# Altium schematic symbol library Carte_design_SCHLib.SchLib: 40 symbols
Pins are listed as number, name and electrical type; pins without a type are passive.

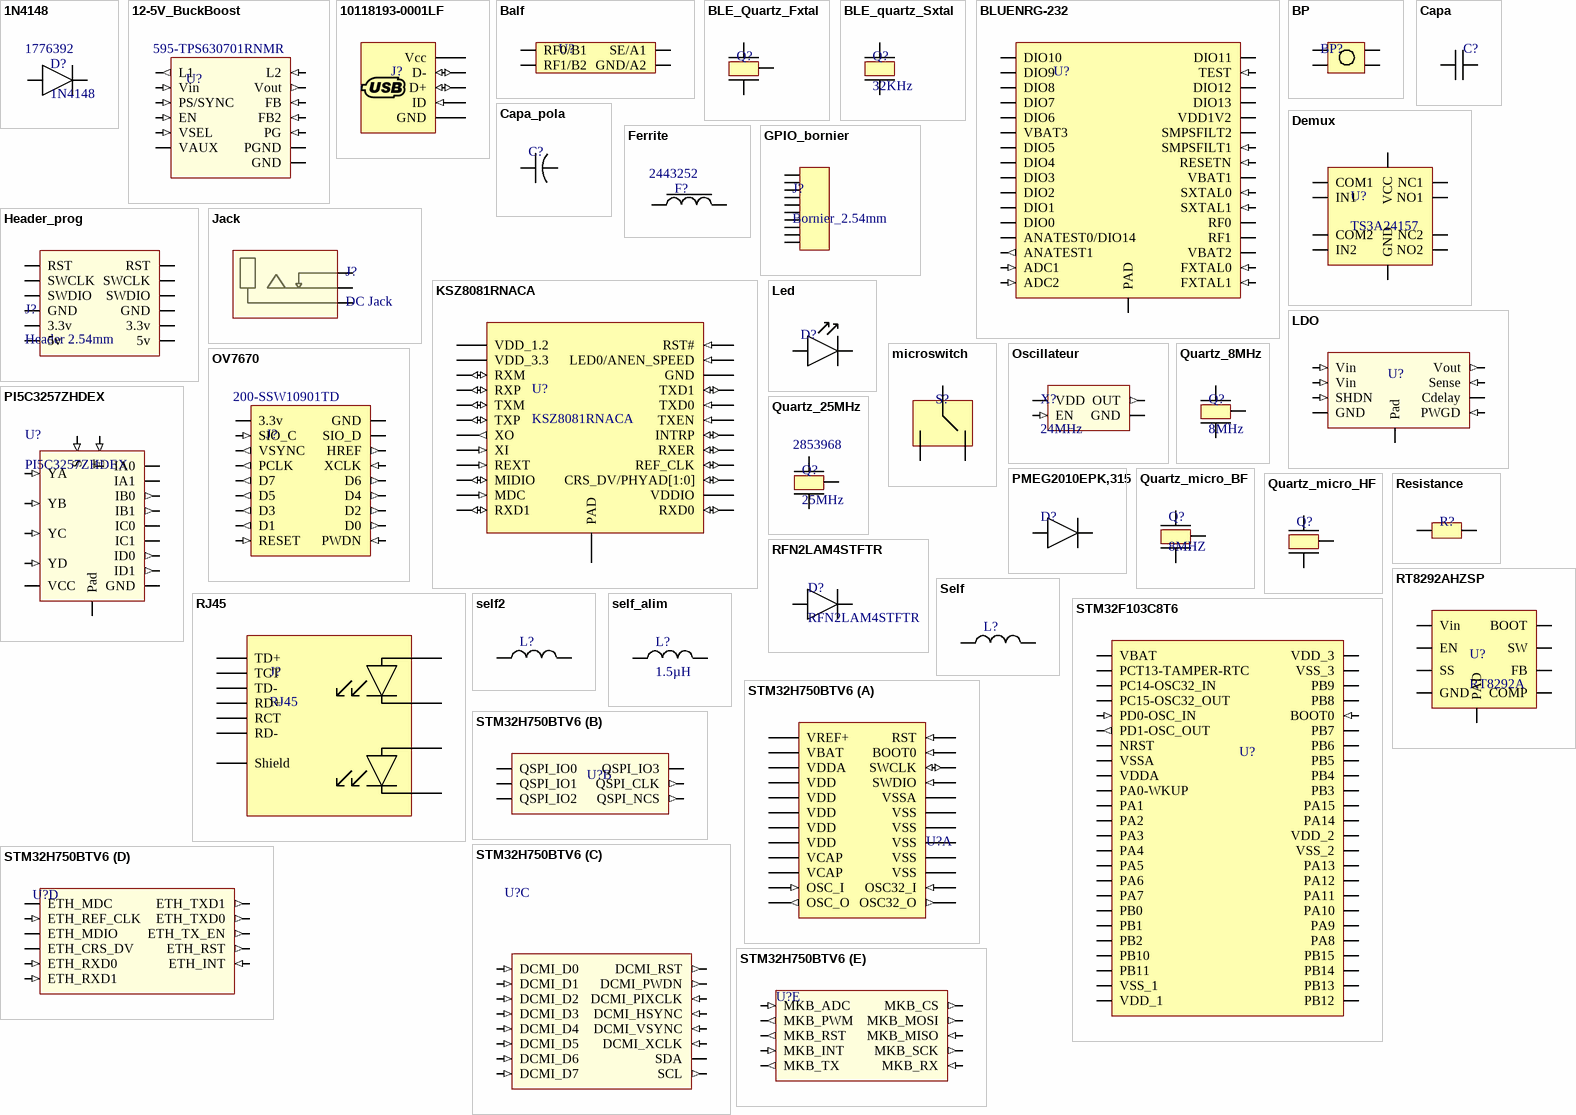
[diagram p0: symbols 1N4148 to STM32H750BTV6]

## 1N4148
designator D?  Supplier Part Number 1: 1776392
Manufacturer 1: Diodes; Manufacturer Part Number 1: 1N4148W-7-F; Current Rating: 150mA; Voltage: 100V; Current: 15A; Max Surge Current: 2A; Peak Reverse Current: 1uA; Recovery Time: 4ns; Forward Voltage: 1.25V; Average Rectified Current: 300mA; Power Dissipation: 400mW; Element Configuration: Single; Polarity: Standard; Voltage Rating (DC): 75V; Capacitance: 2pF; Supplier 1: Farnell; Stock 1: 844343; Pricing 1: 5=0,16300, 25=0,15900, 100=0,05530, 250=0,05220, 500=0,04810, 1000=0,02600, 5000=0,01940 (EUR); RoHS: Yes; Mount: Surface Mount; Number of Pins: 2; Weight: 0.000353oz; Contact Plating: Tin,Matte; Min Operating Temperature: -65°C; Max Operating Temperature: 150°C; Package Quantity: 3000; Packaging: Tape and Reel; Forward Current: 150mA; Reverse Recovery Time: 4ns; Max Repetitive Reverse Voltage (Vrrm): 100V; Max Forward Surge Current (Ifsm): 2A; Peak Non-Repetitive Surge Current: 2A; Power Rating: 400mW; Output Current: 150mA; Max Reverse Voltage (DC): 100V; Length: 2.85mm; Height: 1.25mm; Width: 1.7mm; Radiation Hardening: No; Lead Free: Lead Free; REACH SVHC: No SVHC; ComponentLink1URL: https://datasheet.ciiva.com/22695/1915529-22695239.pdf?src-supplier=Element14; ComponentLink1Description: https://datasheet.ciiva.com/22695/1915529-22695239.pdf?src-supplier=Element14; ComponentLink2URL: https://datasheet.ciiva.com/911/ds30086-911736.pdf?src-supplier=Digi-Key; ComponentLink2Description: https://datasheet.ciiva.com/911/ds30086-911736.pdf?src-supplier=Digi-Key; ComponentLink3URL: https://datasheet.ciiva.com/1179/1915529-1179304.pdf?src-supplier=Element14; ComponentLink3Description: https://datasheet.ciiva.com/1179/1915529-1179304.pdf?src-supplier=Element14; ComponentLink4URL: https://datasheet.ciiva.com/25919/ds30086-25919609.pdf?src-supplier=Avnet+Europe; ComponentLink4Description: https://datasheet.ciiva.com/25919/ds30086-25919609.pdf?src-supplier=Avnet+Europe; ComponentLink5URL: https://datasheet.ciiva.com/15219/getdatasheetpartid-110030-15219548.pdf?src-supplier=Verical; ComponentLink5Description: https://datasheet.ciiva.com/15219/getdatasheetpartid-110030-15219548.pdf?src-supplier=Verical; ComponentLink6URL: https://datasheet.ciiva.com/911/ds30086-911734.pdf?src-supplier=Digi-Key; ComponentLink6Description: https://datasheet.ciiva.com/911/ds30086-911734.pdf?src-supplier=Digi-Key; ComponentLink7URL: https://datasheet.ciiva.com/911/ds30086-911735.pdf?src-supplier=Digi-Key; ComponentLink7Description: https://datasheet.ciiva.com/911/ds30086-911735.pdf?src-supplier=Digi-Key; ComponentLink8URL: https://datasheet.ciiva.com/4435/ds30086-4435128.pdf?src-supplier=Mouser; ComponentLink8Description: https://datasheet.ciiva.com/4435/ds30086-4435128.pdf?src-supplier=Mouser; ComponentLink9URL: https://datasheet.ciiva.com/8300/ds30086-8300392.pdf?src-supplier=Avnet; ComponentLink9Description: https://datasheet.ciiva.com/8300/ds30086-8300392.pdf?src-supplier=Avnet; ComponentLink10URL: https://datasheet.ciiva.com/8303/ds30086-8303197.pdf?src-supplier=Avnet; ComponentLink10Description: https://datasheet.ciiva.com/8303/ds30086-8303197.pdf?src-supplier=Avnet
footprint SOD123
pins: 1 30, 2 31

## 12-5V_BuckBoost
designator U?  Supplier Part Number 1: 595-TPS630701RNMR  (hidden comment: *)
Manufacturer 1: Texas Instruments; Manufacturer Part Number 1: TPS630701RNMR; Quiescent Current: 50uA; Supplier 1: Mouser; Stock 1: 3900; Pricing 1: 1=2,59000, 10=2,20000, 100=1,76000, 500=1,54000, 1000=1,28000, 3000=1,19000, 6000=1,15000, 9000=1,10000 (USD); RoHS: No; Lead Free: Lead Free; ComponentLink1URL: http://www.ti.com/lit/ds/symlink/tps63070.pdf?src-supplier=Digi-Key; ComponentLink1Description: http://www.ti.com/lit/ds/symlink/tps63070.pdf?src-supplier=Digi-Key
footprint BuckBoost
pins: 1 PS/SYNC (in), 2 PG (in), 3 VAUX, 4 GND (power), 5 FB (in), 6 FB2 (in), 7 Vout (out), 9 L2 (in), 10 PGND (power), 11 L1 (out), 12 Vin (in), 14 EN (in), 15 VSEL (in)

## 10118193-0001LF
designator J?
CONN RCPT USB2.0 MICRO B SMD R/A; Manufacturer 1: Amphenol FCI; Manufacturer Part Number 1: 10118193-0001LF; Gender: Female; Connector Type: USB,Receptacle; Number of Contacts: 5; Insulation Resistance: 1GR; Number of Ports: 1; Current Rating: 1.8A; Max Voltage Rating (AC): 100V; Pitch: 0.65mm; Supplier 1: Digi-Key; Stock 1: 117828; Pricing 1: 1=0,43000, 10=0,40500, 25=0,36440, 50=0,32400, 100=0,31040, 250=0,28344, 500=0,26994 (USD); RoHS: Yes; Mount: Surface Mount,Horizontal; Contact Material: Copper Alloy; Contact Plating: Gold; Color: Black; Number of Terminals: 5; Housing Material: Polymer; Min Operating Temperature: -55°C; Max Operating Temperature: 85°C; Termination: Solder; Orientation: Right Angle; Package Quantity: 1200; Packaging: Tape and Reel; Voltage Rating: 100V; Features: Shielded; Length: 7.86mm; Depth: 5.67mm; Radiation Hardening: No; Flammability Rating: UL94 V-0; ComponentLink1URL: https://datasheet.ciiva.com/851/10118193-851106.pdf?src-supplier=Digi-Key; ComponentLink1Description: https://datasheet.ciiva.com/851/10118193-851106.pdf?src-supplier=Digi-Key; ComponentLink2URL: https://datasheet.ciiva.com/14802/10118193-0001lf-webpage-14802386.pdf?src-supplier=Arrow; ComponentLink2Description: https://datasheet.ciiva.com/14802/10118193-0001lf-webpage-14802386.pdf?src-supplier=Arrow; ComponentLink3URL: https://datasheet.ciiva.com/26853/getdatasheetpartid-418618-26853893.pdf?src-supplier=Verical; ComponentLink3Description: https://datasheet.ciiva.com/26853/getdatasheetpartid-418618-26853893.pdf?src-supplier=Verical; ComponentLink4URL: https://datasheet.ciiva.com/4598/10118193ac-197151-4598799.pdf?src-supplier=Mouser; ComponentLink4Description: https://datasheet.ciiva.com/4598/10118193ac-197151-4598799.pdf?src-supplier=Mouser; ComponentLink5URL: https://datasheet.ciiva.com/851/10118193-851107.pdf?src-supplier=Digi-Key; ComponentLink5Description: https://datasheet.ciiva.com/851/10118193-851107.pdf?src-supplier=Digi-Key; ComponentLink6URL: https://datasheet.ciiva.com/851/10118193-851108.pdf?src-supplier=Digi-Key; ComponentLink6Description: https://datasheet.ciiva.com/851/10118193-851108.pdf?src-supplier=Digi-Key; ComponentLink7URL: https://datasheet.ciiva.com/14618/70236827-14618887.pdf?src-supplier=Allied+Electronics; ComponentLink7Description: https://datasheet.ciiva.com/14618/70236827-14618887.pdf?src-supplier=Allied+Electronics; Supplier Part Number 1: 609-4616-1-ND
footprint Mini_USB_mixte
pins: 1 Vcc (power), 2 D- (io), 3 D+ (io), 4 ID (in), 5 GND (power)

## Balf
designator U?  (value not drawn)
Manufacturer 1: STMicroelectronics; Manufacturer Part Number 1: BALF-NRG-02D3; Supplier 1: Digi-Key; Stock 1: 10182; Pricing 1: 1=0,40000, 10=0,34700, 100=0,25870, 500=0,20328, 1000=0,15708 (USD); RoHS: No; ComponentLink1URL: http://www.farnell.com/datasheets/2342732.pdf?src-supplier=Farnell; ComponentLink1Description: http://www.farnell.com/datasheets/2342732.pdf?src-supplier=Farnell; ComponentLink2URL: http://www.st.com/content/ccc/resource/technical/document/datasheet/group3/51/4f/c4/19/79/13/4a/ad/DM00408204/files/DM00408204.pdf/jcr:content/translations/en.DM00408204.pdf?src-supplier=Digi-Key; ComponentLink2Description: http://www.st.com/content/ccc/resource/technical/document/datasheet/group3/51/4f/c4/19/79/13/4a/ad/DM00408204/files/DM00408204.pdf/jcr:content/translations/en.DM00408204.pdf?src-supplier=Digi-Key; ComponentLink3URL: http://www.farnell.com/datasheets/2342732.pdf?src-supplier=Newark; ComponentLink3Description: http://www.farnell.com/datasheets/2342732.pdf?src-supplier=Newark; Supplier Part Number 1: 497-17591-1-ND
footprint 4-UFBGA
pins: 1 SE/A1, 2 GND/A2, 3 RF0/B1, 4 RF1/B2

## BLE_Quartz_Fxtal
designator Q?  (value not drawn)
Manufacturer 1: Kyocera AVX; Manufacturer Part Number 1: CX2016DB32000D0FLJCC; Frequency: 32MHz; Load Capacitance: 8pF; ESR (Equivalent Series Resistance): 80R; Frequency Tolerance: 10ppm; Frequency Stability: 15ppm; Supplier 1: Digi-Key; Stock 1: 89937; Pricing 1: 1=0,94000, 10=0,83500, 50=0,78040, 100=0,68970, 500=0,65340, 1000=0,54450 (USD); RoHS: Yes; Mount: Surface Mount; Case/Package: SMD/SMT; Number of Pins: 4; Min Operating Temperature: -30°C; Max Operating Temperature: 85°C; Packaging: Tape and Reel; Package Quantity: 3000; Tolerance: 10ppm; Termination: SMD/SMT; Series Resistance: 80R; Length: 0.079inch; Height: 0.018inch; Width: 1.6mm; Lead Pitch: 1.4mm; REACH SVHC: No SVHC; ComponentLink1URL: https://datasheet.ciiva.com/29631/cx2016db-wl-e-29631269.pdf?src-supplier=Digi-Key; ComponentLink1Description: https://datasheet.ciiva.com/29631/cx2016db-wl-e-29631269.pdf?src-supplier=Digi-Key; ComponentLink2URL: https://datasheet.ciiva.com/29631/cx2016db-wl-e-29631270.pdf?src-supplier=Digi-Key; ComponentLink2Description: https://datasheet.ciiva.com/29631/cx2016db-wl-e-29631270.pdf?src-supplier=Digi-Key; ComponentLink3URL: https://datasheet.ciiva.com/29631/cx2016db-wl-e-29631271.pdf?src-supplier=Digi-Key; ComponentLink3Description: https://datasheet.ciiva.com/29631/cx2016db-wl-e-29631271.pdf?src-supplier=Digi-Key; Supplier Part Number 1: 1253-1118-1-ND
footprint BLE_Quartz_Fxtal
pins: 1 15, 2 16, 3

## BLE_quartz_Sxtal
designator Q?, comment 32KHz
Manufacturer 1: NDK; Manufacturer Part Number 1: NX2012SA-32.768K-STD-MUB-1; Frequency: 32.768kHz; Load Capacitance: 12.5pF; ESR (Equivalent Series Resistance): 80kR; Frequency Tolerance: 20ppm; Supplier 1: Digi-Key; Stock 1: 28609; Pricing 1: 1=0,91000, 10=0,80500, 50=0,75200, 100=0,66460, 500=0,62964, 1000=0,52470 (USD); RoHS: Yes; Mount: Surface Mount; Case/Package: SMD/SMT; Min Operating Temperature: -40°C; Max Operating Temperature: 85°C; Packaging: Tape and Reel; Length: 0.081inch; Height: 0.024inch; Width: 0.047inch; ComponentLink1URL: http://www.ndk.com/images/products/catalog/c_NX2012SA-STD-MUB-1_e.pdf?src-supplier=Digi-Key; ComponentLink1Description: http://www.ndk.com/images/products/catalog/c_NX2012SA-STD-MUB-1_e.pdf?src-supplier=Digi-Key; Supplier Part Number 1: 644-1219-1-ND
footprint BLE_Quartz_Sxtal
pins: 1 15, 2 16

## BLUENRG-232
designator U?  (value not drawn)
Manufacturer 1: STMicroelectronics; Manufacturer Part Number 1: BLUENRG-232; Supplier 1: Farnell; Stock 1: 3489; Pricing 1: 1=3,54000, 10=2,68000, 25=2,55000, 50=2,44000, 100=2,32000, 250=2,20000, 500=1,98000, 1000=1,64000 (EUR); RoHS: No; ComponentLink1URL: http://www.farnell.com/datasheets/2327324.pdf?src-supplier=Farnell; ComponentLink1Description: http://www.farnell.com/datasheets/2327324.pdf?src-supplier=Farnell; ComponentLink2URL: https://www.st.com/resource/en/flyer/flbluenrg21017.pdf?src-supplier=Digi-Key; ComponentLink2Description: https://www.st.com/resource/en/flyer/flbluenrg21017.pdf?src-supplier=Digi-Key; ComponentLink3URL: http://www.farnell.com/datasheets/2327324.pdf?src-supplier=Newark; ComponentLink3Description: http://www.farnell.com/datasheets/2327324.pdf?src-supplier=Newark; Supplier Part Number 1: 2771347
footprint QFN50P500X500X100_HS-33M (QFN, 32-Leads, Body 5,00x5,00mm, Pitch 0,50mm, Thermal Pad 3,45x3,45mm, IPC Low Density)
pins: 1 DIO10 (io), 2 DIO9 (io), 3 DIO8 (io), 4 DIO7 (io), 5 DIO6 (io), 6 VBAT3 (power), 7 DIO5 (io), 8 DIO4 (io), 9 DIO3 (io), 10 DIO2 (io), 11 DIO1 (io), 12 DIO0 (io), 13 ANATEST0/DIO14 (io), 14 ANATEST1 (out), 15 ADC1 (in), 16 ADC2 (in), 17 FXTAL1 (in), 18 FXTAL0 (in), 19 VBAT2 (power), 20 RF1 (io), 21 RF0 (io), 22 SXTAL1 (in), 23 SXTAL0 (in), 24 VBAT1 (power), 25 RESETN (in), 26 SMPSFILT1 (in), 27 SMPSFILT2 (io), 28 VDD1V2 (power), 29 DIO13 (io), 30 DIO12 (io), 31 TEST (in), 32 DIO11 (io), 33 PAD

## BP
designator BP?  (value not drawn)
Manufacturer 1: Schurter; Manufacturer Part Number 1: 1241.1600.11; Mechanical Life: 1000000Cycles; Actuator Material: Polyphenylene; Current Rating: 50mA; Operating Force: 1.8N; Throw Configuration: SPST; Voltage Rating (DC): 42V; Voltage Rating (AC): 30V; Illumination Type: Non-Illuminated,Illuminated; Switch Travel: 0.35mm; Switch Function: Off-Mom; Actuator Type: Standard; Actuator Length: 1.05mm; Ratings: IP40; Supplier 1: Farnell; Stock 1: 75; Pricing 1: 1=1,74000, 50=1,68000, 100=1,27000, 500=1,09000, 1000=1,07000 (EUR); RoHS: Yes; Mount: Surface Mount; Weight: 0.059966oz; Contact Material: Gold; Contact Plating: Gold; Min Operating Temperature: -40°C; Max Operating Temperature: 85°C; Package Quantity: 100; Packaging: Bulk; Termination: Gull Wing; Max Current Rating: 50mA; Contact Current Rating: 50mA; Max Voltage Rating (DC): 42V; Max Voltage Rating (AC): 30V; Orientation: Straight; Length: 11.4mm; Depth: 15.9mm; Radiation Hardening: No; REACH SVHC: No SVHC; Flammability Rating: UL94 V-0; ComponentLink1URL: https://datasheet.ciiva.com/1223/typ-sms-1223568.pdf?src-supplier=Element14; ComponentLink1Description: https://datasheet.ciiva.com/1223/typ-sms-1223568.pdf?src-supplier=Element14; ComponentLink2URL: https://datasheet.ciiva.com/25603/0900766b81148c24-25603897.pdf?src-supplier=RSComponents; ComponentLink2Description: https://datasheet.ciiva.com/25603/0900766b81148c24-25603897.pdf?src-supplier=RSComponents; Supplier Part Number 1: 1217752
footprint BP
pins: 1 S, 2 S, 3 S, 4 S

## Capa
designator C?  (value not drawn)
footprint 0603
pins: 1 29, 2 28

## Capa_pola
designator C?  (value not drawn)
footprint Capa_Radial_D4mm_H5.5mm
pins: 1 28, 2 28

## Demux
designator U?, comment TS3A24157
Manufacturer 1: Texas Instruments; Manufacturer Part Number 1: TS3A24157RSER; Number of Channels: 2; Number of Outputs: 4; Min Supply Voltage: 1.65V; Max Supply Voltage: 3.6V; On-State Resistance: 650mR; Operating Supply Current: 15nA; Turn-On Delay Time: 35ns; Turn-Off Delay Time: 25ns; Max Supply Current: 25nA; Throw Configuration: SPDT; Supply Type: Single; Bandwidth: 50MHz; Operating Supply Voltage: 3V; Polarity: Non-Inverting; High Level Output Current: 300mA; Supplier 1: Mouser; Stock 1: 4287; Pricing 1: 1=1,12000, 10=0,95000, 100=0,72900, 500=0,64500, 1000=0,50900, 3000=0,45100, 9000=0,43400 (USD); RoHS: Yes; Mount: Surface Mount; Case/Package: QFN; Number of Pins: 10; Weight: 0.000247oz; Contact Plating: Gold; Min Operating Temperature: -40°C; Max Operating Temperature: 85°C; Number of Inputs: 2; Packaging: Tape and Reel; Package Quantity: 1; Low Level Output Current: 300mA; Length: 2.05mm; Height: 0.55mm; Width: 1.55mm; Radiation Hardening: No; Lead Free: Lead Free; REACH SVHC: No SVHC; ComponentLink1URL: https://datasheet.ciiva.com/22652/1716485-22652676.pdf?src-supplier=Element14; ComponentLink1Description: https://datasheet.ciiva.com/22652/1716485-22652676.pdf?src-supplier=Element14; ComponentLink2URL: https://datasheet.ciiva.com/15127/getdatasheetpartid-294427-15127623.pdf?src-supplier=Verical; ComponentLink2Description: https://datasheet.ciiva.com/15127/getdatasheetpartid-294427-15127623.pdf?src-supplier=Verical; ComponentLink3URL: https://datasheet.ciiva.com/26227/ts3a24157-26227798.pdf?src-supplier=Avnet+Europe; ComponentLink3Description: https://datasheet.ciiva.com/26227/ts3a24157-26227798.pdf?src-supplier=Avnet+Europe; ComponentLink4URL: https://datasheet.ciiva.com/1671/ts3a24157-1671128.pdf?src-supplier=Digi-Key; ComponentLink4Description: https://datasheet.ciiva.com/1671/ts3a24157-1671128.pdf?src-supplier=Digi-Key; ComponentLink5URL: https://datasheet.ciiva.com/1671/ts3a24157-1671129.pdf?src-supplier=Digi-Key; ComponentLink5Description: https://datasheet.ciiva.com/1671/ts3a24157-1671129.pdf?src-supplier=Digi-Key; ComponentLink6URL: https://datasheet.ciiva.com/14435/ts3a24157-14435625.pdf?src-supplier=Avnet; ComponentLink6Description: https://datasheet.ciiva.com/14435/ts3a24157-14435625.pdf?src-supplier=Avnet; ComponentLink7URL: https://datasheet.ciiva.com/1671/ts3a24157-1671130.pdf?src-supplier=Digi-Key; ComponentLink7Description: https://datasheet.ciiva.com/1671/ts3a24157-1671130.pdf?src-supplier=Digi-Key; Supplier Part Number 1: 595-TS3A24157RSER
footprint UQFN-10
pins: 1 NC1, 2 NO1, 3 NC2, 4 NO2, 5 GND, 6 COM2, 7 IN2, 8 IN1, 9 COM1, 10 VCC

## Ferrite
designator F?  Supplier Part Number 1: 2443252  (hidden comment: *)
Manufacturer 1: Murata; Manufacturer Part Number 1: BLM21PG121SN1D; Material: Steel,Ferrite; Impedance: 120R; Current Rating: 3A; DC Resistance (DCR): 30mR; Number of Lines: 1; Tolerance: 25%; Test Frequency: 100MHz; Supplier 1: Farnell; Stock 1: 13249; Pricing 1: 10=0,06150, 100=0,03810, 500=0,02760, 1000=0,02500, 2000=0,02050, 4000=0,01820, 20000=0,01430 (EUR); RoHS: Yes; Case/Package: 0805; Number of Pins: 2; Case Code (Metric): 2012; Case Code (Imperial): 0805; Min Operating Temperature: -55°C; Max Operating Temperature: 125°C; Packaging: Tape and Reel; Number of Circuits: 1; Package Quantity: 1; Max Current Rating: 3A; Max DC Current: 3A; Termination: SMD/SMT; Length: 2mm; Height: 0.85mm; Width: 1.25mm; Depth: 1.25mm; REACH SVHC: No SVHC; Lead Free: Lead Free; ComponentLink1URL: https://datasheet.ciiva.com/16420/l0110s0100blm21p-16420725.pdf?src-supplier=Future+Electronics; ComponentLink1Description: https://datasheet.ciiva.com/16420/l0110s0100blm21p-16420725.pdf?src-supplier=Future+Electronics; ComponentLink2URL: https://datasheet.ciiva.com/6211/l0110s0100blm21p-6211734.pdf?src-supplier=Digi-Key; ComponentLink2Description: https://datasheet.ciiva.com/6211/l0110s0100blm21p-6211734.pdf?src-supplier=Digi-Key; ComponentLink3URL: https://datasheet.ciiva.com/6211/l0110s0100blm21p-6211738.pdf?src-supplier=Digi-Key; ComponentLink3Description: https://datasheet.ciiva.com/6211/l0110s0100blm21p-6211738.pdf?src-supplier=Digi-Key; ComponentLink4URL: https://datasheet.ciiva.com/6211/l0110s0100blm21p-6211739.pdf?src-supplier=Digi-Key; ComponentLink4Description: https://datasheet.ciiva.com/6211/l0110s0100blm21p-6211739.pdf?src-supplier=Digi-Key; ComponentLink5URL: https://datasheet.ciiva.com/46423/1756152-46423915.pdf?src-supplier=Element14; ComponentLink5Description: https://datasheet.ciiva.com/46423/1756152-46423915.pdf?src-supplier=Element14
footprint 0805_W1.25
pins: 1 17, 2 18

## GPIO_bornier
designator J?, comment Bornier_2.54mm
Manufacturer 1: Multicomp; Manufacturer Part Number 1: 2212S-10SG-85; Description: MULTICOMP         2212S-10SG-85            Board-To-Board Connector, 2212S Series, Through Hole, Receptacle, 10 Contacts, 2.54 mm; Gender: Receptacle; Number of Contacts: 10; Insulation Resistance: 1GR; Supplier 1: Farnell; Stock 1: 33107; Pricing 1: 5=0,22700, 50=0,16700, 150=0,14500, 250=0,11700, 500=0,11300, 1500=0,10900, 2500=0,10500, 5000=0,10100 (EUR); RoHS: Yes; Mount: Through Hole; Weight: 0.11lb; Contact Plating: Gold; Contact Material: Copper Alloy; Number of Rows: 1; Termination: Through Hole; Length: 1.02inch; Height: 0.35inch; Width: 0.12inch; REACH SVHC: No SVHC; Flammability Rating: UL94 V-0; ComponentLink1URL: https://datasheet.ciiva.com/1434/1662126-1434006.pdf?src-supplier=Element14; ComponentLink1Description: https://datasheet.ciiva.com/1434/1662126-1434006.pdf?src-supplier=Element14; Supplier Part Number 1: 1593464
footprint GPIO_header
pins: 1, 2, 3, 4, 5, 6, 7, 8, 9, 10

## Header_prog
designator J?, comment Header 2.54mm
Manufacturer 1: Molex; Manufacturer Part Number 1: 90131-0126; Description: Pin header 2x6P, 90131-0126, Molex; Current Rating: 3A; Voltage Rating: 350V; Number of Positions: 12; Gender: Male; Supplier 1: Farnell; Stock 1: 578; Pricing 1: 1=1,13000, 5=1,08000, 10=0,93800, 50=0,89900, 100=0,57600, 500=0,55600, 1000=0,52900 (EUR); RoHS: Yes; Mount: Through Hole; Contact Plating: Tin; Contact Material: Brass; Housing Color: Black; Housing Material: Polyester; Min Operating Temperature: -55°C; Max Operating Temperature: 125°C; Number of Rows: 2; Packaging: Tray; Package Quantity: 2400; Termination: Solder; Number of Contacts: 12; Orientation: Straight; Lead Pitch: 2.54mm; Pitch: 2.54mm; Radiation Hardening: No; REACH SVHC: Unknown; Lead Free: Lead Free; ComponentLink1URL: https://datasheet.ciiva.com/11746/0900766b80d60386-11746641.pdf?src-supplier=RSComponents; ComponentLink1Description: https://datasheet.ciiva.com/11746/0900766b80d60386-11746641.pdf?src-supplier=RSComponents; ComponentLink2URL: https://datasheet.ciiva.com/10081/0901310126-pcb-headers-10081988.pdf?src-supplier=Avnet; ComponentLink2Description: https://datasheet.ciiva.com/10081/0901310126-pcb-headers-10081988.pdf?src-supplier=Avnet; ComponentLink3URL: https://datasheet.ciiva.com/30238/0901310126-pcb-headers-30238630.pdf?src-supplier=Onlinecomponents.com; ComponentLink3Description: https://datasheet.ciiva.com/30238/0901310126-pcb-headers-30238630.pdf?src-supplier=Onlinecomponents.com; ComponentLink4URL: https://datasheet.ciiva.com/5150/0901310126-pcb-headers-151523-5150855.pdf?src-supplier=Mouser; ComponentLink4Description: https://datasheet.ciiva.com/5150/0901310126-pcb-headers-151523-5150855.pdf?src-supplier=Mouser; ComponentLink5URL: https://datasheet.ciiva.com/16731/0901310126-pcb-headers-16731638.pdf?src-supplier=Avnet+Europe; ComponentLink5Description: https://datasheet.ciiva.com/16731/0901310126-pcb-headers-16731638.pdf?src-supplier=Avnet+Europe; ComponentLink6URL: https://datasheet.ciiva.com/26307/cgrid-iii-eng-tds-26307631.pdf?src-supplier=Distrelec; ComponentLink6Description: https://datasheet.ciiva.com/26307/cgrid-iii-eng-tds-26307631.pdf?src-supplier=Distrelec; Supplier Part Number 1: 3049397
footprint Header_prog
pins: 1 RST, 2 SWCLK, 3 SWDIO, 4 GND, 5 3.3v, 6 5v, 7 5v, 8 3.3v, 9 GND, 10 SWDIO, 11 SWCLK, 12 RST

## Jack
designator J?, comment DC Jack
Manufacturer 1: Cliff; Manufacturer Part Number 1: FC681465S; Current Rating: 2A; Voltage Rating: 12V; Gender: Male; Supplier 1: Farnell; Stock 1: 116; Pricing 1: 1=2,21000, 50=0,98100, 100=0,90100, 250=0,80300, 500=0,76100, 1000=0,73600 (EUR); RoHS: No; Termination: SMD/SMT; Voltage Rating (DC): 12V; REACH SVHC: No SVHC; ComponentLink1URL: http://www.farnell.com/datasheets/2005854.pdf?src-supplier=Farnell; ComponentLink1Description: http://www.farnell.com/datasheets/2005854.pdf?src-supplier=Farnell; ComponentLink2URL: http://www.farnell.com/datasheets/2005854.pdf?src-supplier=Element14; ComponentLink2Description: http://www.farnell.com/datasheets/2005854.pdf?src-supplier=Element14; Supplier Part Number 1: 2520583
footprint Jack
pins: 1 PAD, 2 PAD, 3 PAD

## KSZ8081RNACA
designator U?
IC TXRX ETHERNET 24QFN; Manufacturer 1: Microchip; Simplex/Duplex: Full Duplex; Supplier 1: Farnell; Manufacturer Part Number 1: KSZ8081RNACA; Stock 1: 869; Pricing 1: 1=0,89100, 25=0,82400, 100=0,75700 (EUR); RoHS: Yes; Mount: Surface Mount; Case/Package: QFN; Min Operating Temperature: 0°C; Max Operating Temperature: 70°C; Packaging: Rail/Tube; ComponentLink1URL: http://www.farnell.com/datasheets/2310338.pdf?src-supplier=Farnell; ComponentLink1Description: http://www.farnell.com/datasheets/2310338.pdf?src-supplier=Farnell; ComponentLink2URL: http://www.microchip.com/mymicrochip/filehandler.aspx?ddocname=en581592&src-supplier=Digi-Key; ComponentLink2Description: http://www.microchip.com/mymicrochip/filehandler.aspx?ddocname=en581592&src-supplier=Digi-Key; Supplier Part Number 1: 2809920
footprint QFN50P400X400X90_HS-25M (QFN, 24-Leads, Body 4,00x4,00mm, Pitch 0,50mm, Thermal Pad 2,50x2,50mm, IPC Low Density)
pins: 1 VDD_1.2 (power), 2 VDD_3.3 (power), 3 RXM (io), 4 RXP (io), 5 TXM (io), 6 TXP (io), 7 XO (out), 8 XI (in), 9 REXT (in), 10 MIDIO (io), 11 MDC (in), 12 RXD1 (io), 13 RXD0 (io), 14 VDDIO (power), 15 CRS_DV/PHYAD[1:0] (io), 16 REF_CLK (io), 17 RXER (io), 18 INTRP (io), 19 TXEN (in), 20 TXD0 (in), 21 TXD1 (io), 22 GND (power), 23 LED0/ANEN_SPEED (in), 24 RST# (in), 25 PAD (power)

## LDO
designator U?  (value not drawn)
footprint SON65P300X100_HS-9M (SON, 8-Leads, Body 3,00x3,00mm, Pitch 0,65mm, Thermal Pad 2,40x1,49mm, IPC Low Density)
pins: 1 Vin (in), 2 Vin (in), 3 SHDN (in), 4 GND (power), 5 PWGD (in), 6 Cdelay, 7 Sense (in), 8 Vout (out), 9 Pad (power)

## Led
designator D?  (value not drawn)
footprint LED_0603
pins: 1 30, 2 31

## microswitch
designator S?  (value not drawn)
Manufacturer 1: Nidec Copal; Manufacturer Part Number 1: CAS-120TA; Body Material: Polyphenylene; Throw Configuration: SPDT; Voltage Rating (DC): 6V; Current Rating: 100mA; Number of Positions: 2; Electrical Life: 2000Cycles; Max Voltage Rating (DC): 24V; Actuator Type: Slide (Standard); Washable: Yes; Supplier 1: Farnell; Stock 1: 273; Pricing 1: 1=0,95500, 50=0,89700, 100=0,81900, 500=0,74100, 1000=0,62100 (EUR); RoHS: Yes; Mount: Surface Mount; Contact Material: Copper Alloy; Contact Plating: Gold; Min Operating Temperature: -40°C; Max Operating Temperature: 85°C; Packaging: Tape and Reel; Termination: J-Hook; Orientation: Vertical; Length: 0.212inch; Lead Free: Lead Free; ComponentLink1URL: https://datasheet.ciiva.com/2863/cas-2863457.pdf?src-supplier=Digi-Key; ComponentLink1Description: https://datasheet.ciiva.com/2863/cas-2863457.pdf?src-supplier=Digi-Key; ComponentLink2URL: https://datasheet.ciiva.com/2863/cas-2863458.pdf?src-supplier=Digi-Key; ComponentLink2Description: https://datasheet.ciiva.com/2863/cas-2863458.pdf?src-supplier=Digi-Key; ComponentLink3URL: https://datasheet.ciiva.com/2863/cas-2863459.pdf?src-supplier=Digi-Key; ComponentLink3Description: https://datasheet.ciiva.com/2863/cas-2863459.pdf?src-supplier=Digi-Key; Supplier Part Number 1: 2854716
footprint Switch_slider
pins: 1 NO7, 2 NO5, 3 NO6

## Oscillateur
designator X?, comment 24MHz
Manufacturer 1: Kyocera AVX; Manufacturer Part Number 1: KC2520B24.0000C10E00; Load Capacitance: 15pF; Max Supply Voltage: 3.63V; Min Supply Voltage: 1.6V; Frequency Tolerance: 50ppm; Current Rating: 3.5mA; Max Duty Cycle: 55%; Supplier 1: Mouser; Stock 1: 7192; Pricing 1: 1=1,34000, 10=1,28000, 50=1,26000, 100=1,07000, 500=1,04000, 1000=0,84100, 2000=0,79800, 10000=0,79600 (USD); RoHS: Yes; Mount: Surface Mount; Case/Package: CSMD; Number of Pins: 4; Min Operating Temperature: -10°C; Max Operating Temperature: 70°C; Packaging: Tape and Reel; Frequency: 24MHz; Package Quantity: 2000; Frequency Stability: 50ppm; Termination: SMD/SMT; Max Supply Current: 3.5mA; Length: 2.5mm; Height: 0.028inch; Width: 2mm; Depth: 2mm; Radiation Hardening: No; REACH SVHC: Unknown; Lead Free: Lead Free; ComponentLink1URL: https://datasheet.ciiva.com/7061/1794171-7061531.pdf?src-supplier=Newark; ComponentLink1Description: https://datasheet.ciiva.com/7061/1794171-7061531.pdf?src-supplier=Newark; Supplier Part Number 1: 581-KC2520B24.0C10
footprint Oscillateur
pins: 1 EN (in), 2 GND (power), 3 OUT (out), 4 VDD (power)

## OV7670
designator J?  Supplier Part Number 1: 200-SSW10901TD  (hidden comment: *)
Manufacturer 1: Samtec; Manufacturer Part Number 1: SSW-109-01-T-D; Max Current Rating: 6.9A; Contact Resistance: 10mR; Connector Type: Receptacle,Socket; Number of Positions: 18; Gender: Receptacle; Max Voltage Rating (AC): 550V; Mating Cycles: 100; Pitch: 2.54mm; Row Spacing: 0.1inch; Supplier 1: Mouser; Stock 1: 163; Pricing 1: 1=1,58000, 10=1,31000, 100=0,98000, 250=0,92500, 500=0,81600, 1000=0,72400 (USD); RoHS: Yes; Mount: Through Hole; Contact Plating: Tin,Matte; Contact Material: Bronze; Color: Black; Housing Color: Black; Housing Material: Polymer; Min Operating Temperature: -55°C; Max Operating Temperature: 105°C; Packaging: Bulk; Termination: Solder; Number of Rows: 2; Number of Contacts: 18; Orientation: Vertical; Length: 23.37mm; Depth: 4.95mm; Width: 4.95mm; Radiation Hardening: No; REACH SVHC: No SVHC; Lead Free: Lead Free; ComponentLink1URL: https://datasheet.ciiva.com/750/ssw-1xx-xx-xxx-x-xx-xxx-xx-mkt-750020.pdf?src-supplier=Digi-Key; ComponentLink1Description: https://datasheet.ciiva.com/750/ssw-1xx-xx-xxx-x-xx-xxx-xx-mkt-750020.pdf?src-supplier=Digi-Key
footprint Header_2.54_2rang
pins: 1 3.3v (power), 2 GND (power), 3 SIO_C (in), 4 SIO_D (io), 5 VSYNC (out), 6 HREF (out), 7 PCLK (out), 8 XCLK (in), 9 D7 (out), 10 D6 (out), 11 D5 (out), 12 D4 (out), 13 D3 (out), 14 D2 (out), 15 D1 (out), 16 D0 (out), 17 RESET (in), 18 PWDN (in)

## PI5C3257ZHDEX
designator U?
Multiplexer/Demultiplexer Bus Switch 4-Channel 2: 1 16-Pin UQFN T/R; Manufacturer 1: Diodes Inc.; Supplier 1: Digi-Key; Manufacturer Part Number 1: PI5C3257ZHDEX; Stock 1: 3500; Pricing 1: 1=0,59000, 10=0,50700, 100=0,37860, 500=0,29744, 1000=0,22984 (USD); Supplier Part Number 1: PI5C3257ZHDEXDICT-ND
footprint QFN50P300X300X65_HS-17M (QFN, 16-Leads, Body 3,00x3,00mm, Pitch 0,50mm, Thermal Pad 1,75x1,75mm, IPC Low Density)
pins: 1 S (in), 2 IA0 (io), 3 IA1 (io), 4 YA (in), 5 IB0 (out), 6 IB1 (out), 7 YB (in), 8 GND (power), 9 YC (in), 10 IC1 (io), 11 IC0 (io), 12 YD (in), 13 ID1 (out), 14 ID0 (out), 15 ~{E} (in), 16 VCC (power), 17 Pad (power)

## PMEG2010EPK,315
designator D?  (value not drawn)
Manufacturer 1: Nexperia; Manufacturer Part Number 1: PMEG2010EPK,315; Supplier 1: Farnell; Stock 1: 2724; Pricing 1: 5=0,29200, 25=0,26600, 100=0,11800, 250=0,11200, 500=0,09260, 1000=0,07320, 5000=0,06270 (EUR); RoHS: No; Supplier Part Number 1: 2096332
footprint SOD1608
pins: 1 30, 2 31

## Quartz_8MHz
designator Q?, comment 8MHz
Manufacturer 1: Abracon; Manufacturer Part Number 1: ABMM2-8.000MHZ-E2-T; Frequency Tolerance: 20ppm; Load Capacitance: 18pF; ESR (Equivalent Series Resistance): 72R; Supplier 1: Farnell; Stock 1: 32000; Pricing 1: 1=0,80800, 50=0,55800, 100=0,52200, 250=0,47600, 500=0,47400, 1000=0,47100, 5000=0,46900 (EUR); RoHS: Yes; Case/Package: CSMD; Number of Pins: 4; Min Operating Temperature: -20°C; Max Operating Temperature: 70°C; Package Quantity: 1000; Frequency: 8MHz; Packaging: Tape and Reel; Frequency Stability: 20ppm; Tolerance: 20ppm; Termination: SMD/SMT; Composition: Ceramic; Series Resistance: 72R; Accuracy: 20ppm; Length: 6mm; Height: 0.047inch; Width: 3.6mm; Depth: 3.6mm; Lead Free: Lead Free; REACH SVHC: No SVHC; ComponentLink1URL: https://datasheet.ciiva.com/7998/1682206-7998656.pdf?src-supplier=Element14; ComponentLink1Description: https://datasheet.ciiva.com/7998/1682206-7998656.pdf?src-supplier=Element14; ComponentLink2URL: https://datasheet.ciiva.com/4945/abmm2-40161-4945441.pdf?src-supplier=Mouser; ComponentLink2Description: https://datasheet.ciiva.com/4945/abmm2-40161-4945441.pdf?src-supplier=Mouser; ComponentLink3URL: https://datasheet.ciiva.com/3176/abmm2-3176155.pdf?src-supplier=Avnet; ComponentLink3Description: https://datasheet.ciiva.com/3176/abmm2-3176155.pdf?src-supplier=Avnet; ComponentLink4URL: https://datasheet.ciiva.com/855/abmm2-855405.pdf?src-supplier=Digi-Key; ComponentLink4Description: https://datasheet.ciiva.com/855/abmm2-855405.pdf?src-supplier=Digi-Key; ComponentLink5URL: https://datasheet.ciiva.com/855/abmm2-855406.pdf?src-supplier=Digi-Key; ComponentLink5Description: https://datasheet.ciiva.com/855/abmm2-855406.pdf?src-supplier=Digi-Key; ComponentLink6URL: https://datasheet.ciiva.com/855/abmm2-855407.pdf?src-supplier=Digi-Key; ComponentLink6Description: https://datasheet.ciiva.com/855/abmm2-855407.pdf?src-supplier=Digi-Key; Supplier Part Number 1: 1611803
pins: 1 15, 2 16, 3

## Quartz_25MHz
designator Q?, comment 25MHz  Supplier Part Number 1: 2853968
Manufacturer 1: Multicomp; Manufacturer Part Number 1: MCSJK-7U-25.00-12-10-60-B-10; Supplier 1: Farnell; Stock 1: 529; Pricing 1: 5=0,16400, 50=0,13300, 250=0,12300, 500=0,11500, 1500=0,11100, 3000=0,10000, 15000=0,09850 (EUR); RoHS: No; ComponentLink1URL: http://www.farnell.com/datasheets/2645227.pdf?src-supplier=Farnell; ComponentLink1Description: http://www.farnell.com/datasheets/2645227.pdf?src-supplier=Farnell
footprint SMD_3225
pins: 1 15, 2 16, 3

## Quartz_micro_BF
designator Q?, comment 8MHZ
pins: 1 15, 2 16, 3

## Quartz_micro_HF
designator Q?, comment 8MHz  (value not drawn)
Manufacturer 1: Multicomp; Manufacturer Part Number 1: MCSJK-7I-8.00-10-10-60-B-10; Supplier 1: Farnell; Stock 1: 955; Pricing 1: 1=0,42000, 50=0,33900, 100=0,31500, 250=0,30400, 500=0,28100, 1000=0,25400, 5000=0,24900 (EUR); RoHS: No; ComponentLink1URL: http://www.farnell.com/datasheets/2608078.pdf?src-supplier=Farnell; ComponentLink1Description: http://www.farnell.com/datasheets/2608078.pdf?src-supplier=Farnell; Supplier Part Number 1: 2854010
footprint Quartz_Micro_HF
pins: 1 15, 2 16, 3

## Resistance
designator R?  (value not drawn)
footprint 0603
pins: 1 26, 2 27

## RFN2LAM4STFTR
designator D?
RFN2LAM4STF IS THE HIGH RELIABIL; Manufacturer 1: Rohm; Max Reverse Voltage (DC): 400V; Average Rectified Current: 1.5A; Reverse Recovery Time: 30ns; Supplier 1: Mouser; Manufacturer Part Number 1: RFN2LAM4STFTR; Stock 1: 3480; Pricing 1: 1=0,46000, 10=0,37700, 100=0,23000, 1000=0,17800, 3000=0,15200, 9000=0,14100, 24000=0,13400, 45000=0,13100, 99000=0,12600 (USD); RoHS: No; Mount: Surface Mount; Packaging: Tape and Reel; ComponentLink1URL: https://www.rohm.com/datasheet/RFN2LAM4STF/rfn2lam4stf-e?src-supplier=Digi-Key; ComponentLink1Description: https://www.rohm.com/datasheet/RFN2LAM4STF/rfn2lam4stf-e?src-supplier=Digi-Key; Supplier Part Number 1: 755-RFN2LAM4STFTR
footprint LEd_Pilou
pins: 1 30, 2 31

## RJ45
designator J?
Manufacturer 1: Wurth Electronics; Manufacturer Part Number 1: 74990101212; Supplier 1: Mouser; Stock 1: 68; Pricing 1: 1=6,59000, 10=6,21000, 25=5,99000, 50=5,88000, 100=5,76000, 250=5,48000, 500=5,19000, 1000=4,91000, 2500=4,51000 (USD); RoHS: No; ComponentLink1URL: http://www.farnell.com/datasheets/2277299.pdf?src-supplier=Farnell; ComponentLink1Description: http://www.farnell.com/datasheets/2277299.pdf?src-supplier=Farnell; ComponentLink2URL: https://katalog.we-online.de/pbs/datasheet/74990101212.pdf?src-supplier=Digi-Key; ComponentLink2Description: https://katalog.we-online.de/pbs/datasheet/74990101212.pdf?src-supplier=Digi-Key; ComponentLink3URL: http://www.farnell.com/datasheets/2277299.pdf?src-supplier=Newark; ComponentLink3Description: http://www.farnell.com/datasheets/2277299.pdf?src-supplier=Newark; Supplier Part Number 1: 710-74990101212
footprint RJ45
pins: 1 TD+, 2 TCT, 3 TD-, 4 RD+, 5 RCT, 6 RD-, 8 Shield, 9, 10 11, 11, 12

## RT8292AHZSP
designator U?, comment RT8292A
IC REG BUCK ADJ 2A SYNC 8SOP; Manufacturer 1: Richtek; Manufacturer Part Number 1: RT8292AHZSP; Number of Outputs: 1; Min Input Voltage: 4.5V; Max Input Voltage: 23V; Min Output Voltage: 800mV; Max Output Voltage: 20V; Switching Frequency: 340kHz; Synchronous Rectifier: Yes; Output Type: Adjustable; Output Configuration: Positive; Supplier 1: Farnell; Stock 1: 95; Pricing 1: 1=0,57600, 50=0,56400, 100=0,55300, 250=0,54100, 500=0,53000, 1000=0,51800, 2500=0,50600, 5000=0,49500 (EUR); RoHS: Yes; Mount: Surface Mount; Case/Package: SOIC; Number of Pins: 8; Min Operating Temperature: -40°C; Max Operating Temperature: 85°C; Output Current: 2A; Package Quantity: 1; Packaging: Cut Tape; Output Voltage: 20V; REACH SVHC: Unknown; Lead Free: Lead Free; ComponentLink1URL: https://datasheet.ciiva.com/22686/1720512-22686360.pdf?src-supplier=Element14; ComponentLink1Description: https://datasheet.ciiva.com/22686/1720512-22686360.pdf?src-supplier=Element14; Supplier Part Number 1: 2341379
footprint SOP-8
pins: 1 BOOT, 2 Vin, 3 SW, 4 GND, 5 FB, 6 COMP, 7 EN, 8 SS, 9 PAD

## Self
designator L?  (value not drawn)
footprint 0603
pins: 1 17, 2 18

## self2
designator L?  (value not drawn)
footprint 0402
pins: 1 17, 2 18

## self_alim
designator L?, comment 1.5µH
Manufacturer 1: Coilcraft; Manufacturer Part Number 1: XFL4020-152MEB; Core Material: Composite; Self Resonant Frequency: 59MHz; Shielding: Shielded; Tolerance: 20%; Inductance: 1.5uH; Max DC Current: 9.1A; DC Resistance (DCR): 15.8mR; Test Frequency: 100kHz; Supplier 1: Mouser; Stock 1: 10924; Pricing 1: 1=2,13000, 10=2,13000, 50=1,85000, 100=1,55000, 200=1,55000, 500=0,96000, 1000=0,88400, 2000=0,82300 (USD); RoHS: Yes; Min Operating Temperature: -40°C; Max Operating Temperature: 125°C; Packaging: Tape and Reel; Package Quantity: 25; Termination: SMD/SMT; Length: 4.3mm; Height: 2.1mm; Width: 4.3mm; Lead Free: Contains Lead; ComponentLink1URL: http://www.mouser.com/ds/2/597/xfl4020-270756.pdf?src-supplier=Mouser; ComponentLink1Description: http://www.mouser.com/ds/2/597/xfl4020-270756.pdf?src-supplier=Mouser; Supplier Part Number 1: 994-XFL4020-152MEB
footprint self_alim
pins: 1 17, 2 18

## STM32F103C8T6
designator U?  (value not drawn)
Manufacturer 1: STMicroelectronics; Manufacturer Part Number 1: STM32F103C8T6; RAM Size: 20KB; Frequency: 72MHz; Density: 64KB; Number of Bits: 32; Max Power Dissipation: 363mW; Interface: I2C,SPI,USB,CAN,IrDA,UART,USART,LIN; Number of I/Os: 37; Number of Timers/Counters: 4; Max Supply Voltage: 3.6V; Number of PWM Channels: 1; Number of ADC Channels: 10; Min Supply Voltage: 2V; Oscillator Type: Internal; Number of Programmable I/O: 48; Data Bus Width: 32b; Memory Type: FLASH; Number of SPI Channels: 2; Watchdog Timer: Yes; Peripherals: POR,PWM,WDT,DMA,Temp Sensor,I2C; Core Architecture: ARM; Supplier 1: Farnell; Stock 1: 3456; Pricing 1: 1=6,01000, 10=4,64000, 25=4,43000, 50=4,22000, 100=4,01000, 250=3,81000, 500=2,88000 (EUR); RoHS: Yes; Case/Package: LQFP; Number of Pins: 48; Min Operating Temperature: -40°C; Max Operating Temperature: 85°C; Packaging: Tray; Package Quantity: 250; Termination: SMD/SMT; Max Frequency: 72MHz; Number of I2C Channels: 2; Address Bus Width: 32b; Memory Size: 64KB; Length: 7mm; Height: 1.45mm; Width: 7.2mm; Radiation Hardening: No; REACH SVHC: No SVHC; Lead Free: Lead Free; ComponentLink1URL: https://datasheet.ciiva.com/15122/getdatasheetpartid-69880-15122076.pdf?src-supplier=Verical; ComponentLink1Description: https://datasheet.ciiva.com/15122/getdatasheetpartid-69880-15122076.pdf?src-supplier=Verical; ComponentLink2URL: https://datasheet.ciiva.com/26816/stm32f103c8t6-26816902.pdf?src-supplier=IIIC; ComponentLink2Description: https://datasheet.ciiva.com/26816/stm32f103c8t6-26816902.pdf?src-supplier=IIIC; ComponentLink3URL: https://datasheet.ciiva.com/16210/cd00161566-16210248.pdf?src-supplier=Future+Electronics; ComponentLink3Description: https://datasheet.ciiva.com/16210/cd00161566-16210248.pdf?src-supplier=Future+Electronics; ComponentLink4URL: https://datasheet.ciiva.com/14100/pustm-arm-microcont-stm32f103-en-14100508.pdf?src-supplier=Distrelec; ComponentLink4Description: https://datasheet.ciiva.com/14100/pustm-arm-microcont-stm32f103-en-14100508.pdf?src-supplier=Distrelec; ComponentLink5URL: https://datasheet.ciiva.com/8054/1730126-8054942.pdf?src-supplier=Element14; ComponentLink5Description: https://datasheet.ciiva.com/8054/1730126-8054942.pdf?src-supplier=Element14; ComponentLink6URL: https://datasheet.ciiva.com/48687/001075658-da-01-en-mcu-64kb-mem-stm32f103c8t6-lqfp-48-stm-48687589.pdf?src-supplier=Conrad; ComponentLink6Description: https://datasheet.ciiva.com/48687/001075658-da-01-en-mcu-64kb-mem-stm32f103c8t6-lqfp-48-stm-48687589.pdf?src-supplier=Conrad; Supplier Part Number 1: 1447637
footprint CQFP50P900X900X160-48M (CQFP, 48-Leads, Body 9,00x9,00mm, Pitch 0,50mm, IPC Low Density)
pins: 1 VBAT (power), 2 PCT13-TAMPER-RTC (io), 3 PC14-OSC32_IN (io), 4 PC15-OSC32_OUT (io), 5 PD0-OSC_IN (in), 6 PD1-OSC_OUT (out), 7 NRST (io), 8 VSSA (power), 9 VDDA (power), 10 PA0-WKUP (io), 11 PA1 (io), 12 PA2 (io), 13 PA3 (io), 14 PA4 (io), 15 PA5 (io), 16 PA6 (io), 17 PA7 (io), 18 PB0 (io), 19 PB1 (io), 20 PB2 (io), 21 PB10 (io), 22 PB11 (io), 23 VSS_1 (power), 24 VDD_1 (power), 25 PB12 (io), 26 PB13 (io), 27 PB14 (io), 28 PB15 (io), 29 PA8 (io), 30 PA9 (io), 31 PA10 (io), 32 PA11 (io), 33 PA12 (io), 34 PA13 (io), 35 VSS_2 (power), 36 VDD_2 (power), 37 PA14 (io), 38 PA15 (io), 39 PB3 (io), 40 PB4 (io), 41 PB5 (io), 42 PB6 (io), 43 PB7 (io), 44 BOOT0 (in), 45 PB8 (io), 46 PB9 (io), 47 VSS_3 (power), 48 VDD_3 (power)

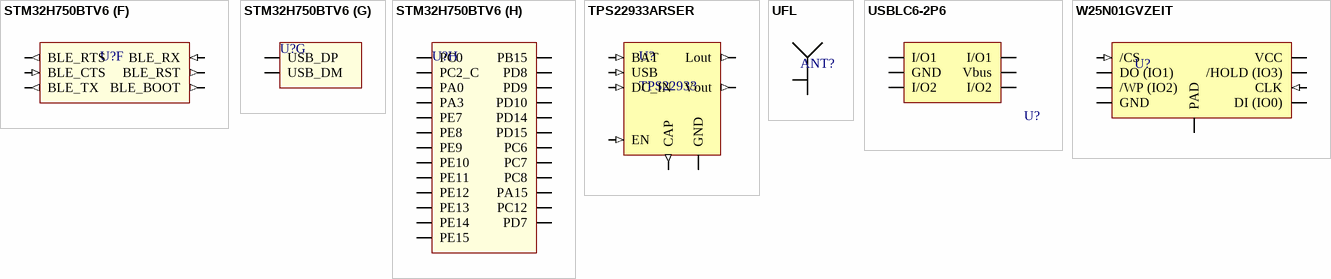
[diagram p1: symbols STM32H750BTV6 to W25N01GVZEIT]

## STM32H750BTV6
designator U?
Manufacturer 1: STMicroelectronics; Manufacturer Part Number 1: STM32H750VBT6; Interface: I2C,SPI,Ethernet,IrDA,MMC,SDIO,SD,UART,EBI/EMI; Peripherals: Brown-out Detect/Reset,POR,PWM,WDT,DMA,LCD; Memory Type: FLASH; Core Architecture: ARM; Frequency: 480MHz; Number of I/Os: 82; Memory Size: 128KB; Oscillator Type: Internal; Supplier 1: Farnell; Stock 1: 690; Pricing 1: 1=7,35000, 10=6,08000, 25=5,79000, 50=5,42000, 100=5,04000, 250=4,80000, 500=3,81000 (EUR); RoHS: No; Mount: Surface Mount; Case/Package: LQFP; Min Operating Temperature: -40°C; Max Operating Temperature: 85°C; Packaging: Tray; ComponentLink1URL: http://www.farnell.com/datasheets/2710930.pdf?src-supplier=Farnell; ComponentLink1Description: http://www.farnell.com/datasheets/2710930.pdf?src-supplier=Farnell; ComponentLink2URL: https://www.st.com/resource/en/errata_sheet/dm00399555.pdf?src-supplier=Digi-Key; ComponentLink2Description: https://www.st.com/resource/en/errata_sheet/dm00399555.pdf?src-supplier=Digi-Key; ComponentLink3URL: http://www.farnell.com/datasheets/2710930.pdf?src-supplier=Element14; ComponentLink3Description: http://www.farnell.com/datasheets/2710930.pdf?src-supplier=Element14; ComponentLink4URL: http://www.farnell.com/datasheets/2710930.pdf?src-supplier=Newark; ComponentLink4Description: http://www.farnell.com/datasheets/2710930.pdf?src-supplier=Newark; Supplier Part Number 1: 2980947
footprint LQFP100_14x14_0.5pitch (TSQFP, 100-Leads, Body 14,00x14,00mm, Pitch 0,50mm, IPC Low Density)
part A pins: 6 VBAT (power), 8 OSC32_I (in), 9 OSC32_O (out), 10 VSS (power), 11 VDD (power), 12 OSC_I (in), 13 OSC_O (out), 14 RST (in), 19 VSSA (power), 20 VREF+ (power), 21 VDDA (power), 26 VSS (power), 27 VDD (power), 48 VCAP (power), 49 VSS (power), 50 VDD (power), 72 SWDIO (in), 73 VCAP (power), 74 VSS (power), 75 VDD (power), 76 SWCLK (io), 94 BOOT0 (in), 99 VSS (power), 100 VDD (power)
part B pins: 1 QSPI_IO2 (io), 36 QSPI_CLK (out), 46 QSPI_NCS (out), 59 QSPI_IO1 (io), 60 QSPI_IO3 (io), 66 QSPI_IO0 (io)
part C pins: 2 DCMI_RST (out), 3 DCMI_D4 (in), 4 DCMI_D6 (in), 5 DCMI_D7 (in), 7 DCMI_PWDN (out), 28 DCMI_HSYNC (in), 29 DCMI_XCLK (in), 30 DCMI_PIXCLK (in), 68 DCMI_D0 (in), 69 DCMI_D1 (in), 92 DCMI_D5 (in), 93 DCMI_VSYNC (in), 95 SCL (out), 96 SDA (io), 97 DCMI_D2 (in), 98 DCMI_D3 (in)
part D pins: 16 ETH_MDC (io), 23 ETH_REF_CLK (in), 24 ETH_MDIO (io), 31 ETH_CRS_DV (io), 32 ETH_RXD0 (in), 33 ETH_RXD1 (in), 34 ETH_INT (in), 35 ETH_RST (out), 47 ETH_TX_EN (out), 51 ETH_TXD0 (out), 52 ETH_TXD1 (out)
part E pins: 18 MKB_ADC (in), 67 MKB_PWM (out), 83 MKB_RST (out), 84 MKB_INT (in), 85 MKB_CS (out), 86 MKB_TX (out), 87 MKB_RX (in), 89 MKB_SCK (out), 90 MKB_MISO (in), 91 MKB_MOSI (out)
part F pins: 53 BLE_RTS (out), 58 BLE_CTS (in), 78 BLE_TX (out), 79 BLE_RX (in), 81 BLE_BOOT (out), 82 BLE_RST (out)
part G pins: 70 USB_DM (io), 71 USB_DP (io)
part H pins: 15 PC0 (io), 17 PC2_C (io), 22 PA0 (io), 25 PA3 (io), 37 PE7 (io), 38 PE8 (io), 39 PE9 (io), 40 PE10 (io), 41 PE11 (io), 42 PE12 (io), 43 PE13 (io), 44 PE14 (io), 45 PE15 (io), 54 PB15 (io), 55 PD8 (io), 56 PD9 (io), 57 PD10 (io), 61 PD14 (io), 62 PD15 (io), 63 PC6 (io), 64 PC7 (io), 65 PC8 (io), 77 PA15 (io), 80 PC12 (io), 88 PD7 (io)

## TPS22933ARSER
designator U?, comment TPS22933
Triple Input Power Multiplexer 8-Pin UQFN T/R; Manufacturer 1: Texas Instruments; Manufacturer Part Number 1: TPS22933ARSER; Number of Outputs: 2; Output Current: 50mA; Max Input Voltage: 12V; Min Input Voltage: 2.5V; On-State Resistance: 6R; Turn-On Delay Time: 65us; Max Supply Current: 15uA; Turn-Off Delay Time: 32us; Number of Inputs: 3; Supplier 1: Digi-Key; Stock 1: 2178; Pricing 1: 1=0,87000, 10=0,77500, 100=0,56470, 500=0,47278, 1000=0,36771 (USD); RoHS: Yes; Number of Pins: 8; Min Operating Temperature: -40°C; Max Operating Temperature: 85°C; Packaging: Tape and Reel; Package Quantity: 1; Max Output Current: 50mA; Current - Output 2: 50mA; Type: General Purpose; Operating Supply Voltage: 12V; Lead Free: Lead Free; ComponentLink1URL: https://datasheet.ciiva.com/6609/tps22933a-6609632.pdf?src-supplier=Digi-Key; ComponentLink1Description: https://datasheet.ciiva.com/6609/tps22933a-6609632.pdf?src-supplier=Digi-Key; ComponentLink2URL: https://datasheet.ciiva.com/12186/slvsb34-213763-12186405.pdf?src-supplier=Mouser; ComponentLink2Description: https://datasheet.ciiva.com/12186/slvsb34-213763-12186405.pdf?src-supplier=Mouser; ComponentLink3URL: https://datasheet.ciiva.com/14248/tps22933a-14248412.pdf?src-supplier=Avnet; ComponentLink3Description: https://datasheet.ciiva.com/14248/tps22933a-14248412.pdf?src-supplier=Avnet; ComponentLink4URL: https://datasheet.ciiva.com/6609/tps22933a-6609631.pdf?src-supplier=Digi-Key; ComponentLink4Description: https://datasheet.ciiva.com/6609/tps22933a-6609631.pdf?src-supplier=Digi-Key; Supplier Part Number 1: 296-34979-1-ND
footprint UQFN8
pins: 1 BAT (in), 2 USB (in), 3 DC_IN (in), 4 GND (power), 5 EN (in), 6 CAP (out), 7 Vout (out), 8 Lout (out)

## UFL
designator ANT?  (value not drawn)
Manufacturer 1: Hirose; Manufacturer Part Number 1: U.FL-R-SMT-1(40); Body Material: Bronze; Body Plating: Silver; Dielectric Material: Polymer; Impedance: 50R; Connector Type: Coaxial,Receptacle,Male Pin; Max Frequency: 6GHz; Polarity: Standard; Insulation Resistance: 500MR; Gender: Female; Supplier 1: Mouser; Stock 1: 562; Pricing 1: 1=1,14000, 10=0,93600, 100=0,85900, 250=0,78000, 500=0,71600, 1000=0,62400, 4000=0,54600, 8000=0,50800 (USD); RoHS: Yes; Mount: Surface Mount; Contact Material: Brass,Bronze; Contact Plating: Gold; Housing Color: Beige; Min Operating Temperature: -40°C; Max Operating Temperature: 90°C; Package Quantity: 4000; Packaging: Tape and Reel; Fastening Type: Snap; Termination: Solder; Frequency: 6GHz; Orientation: Vertical; Lead Free: Lead Free; ComponentLink1URL: https://datasheet.ciiva.com/18563/uflseries-18563675.pdf?src-supplier=Digi-Key; ComponentLink1Description: https://datasheet.ciiva.com/18563/uflseries-18563675.pdf?src-supplier=Digi-Key; Supplier Part Number 1: 798-UFLRSMT140
footprint UFL
pins: 1 GND, 2 GND

## USBLC6-2P6
designator U?  (value not drawn)
TVS DIODE 5.25V 17V SOT666; Manufacturer 1: STMicroelectronics; Manufacturer Part Number 1: USBLC6-2P6; Direction: Unidirectional,Bidirectional; Operating Supply Voltage: 5V; Number of Elements: 1; Capacitance: 3.5pF; Reverse Breakdown Voltage: 6V; Number of Channels: 2; Power Line Protection: Yes; Test Current: 1mA; Max Reverse Leakage Current: 150nA; Peak Pulse Current: 5A; Element Configuration: Dual; Supplier 1: Farnell; Stock 1: 22255; Pricing 1: 5=0,45800, 50=0,40500, 100=0,24700, 500=0,19100, 1500=0,17700 (EUR); RoHS: Yes; Mount: Surface Mount; Case/Package: SOT-666; Number of Pins: 6; Contact Plating: Tin,Matte; Min Operating Temperature: -40°C; Max Operating Temperature: 125°C; Package Quantity: 1; Packaging: Tape and Reel; Number of Bidirectional Channels: 2; Reverse Standoff Voltage: 5V; Min Breakdown Voltage: 6V; Clamping Voltage: 17V; Polarity: Unidirectional,Bidirectional; Breakdown Voltage: 6V; Termination: SMD/SMT; Working Voltage: 5V; ESD Protection: Yes; Leakage Current: 150nA; Max Breakdown Voltage: 6V; Length: 1.7mm; Height: 0.6mm; Width: 1.3mm; Depth: 1.3mm; Radiation Hardening: No; REACH SVHC: No SVHC; Lead Free: Lead Free; ComponentLink1URL: https://datasheet.ciiva.com/15143/getdatasheetpartid-98673-15143462.pdf?src-supplier=Verical; ComponentLink1Description: https://datasheet.ciiva.com/15143/getdatasheetpartid-98673-15143462.pdf?src-supplier=Verical; ComponentLink2URL: https://datasheet.ciiva.com/14186/usblc6-2-st-eng-tds-14186568.pdf?src-supplier=Distrelec; ComponentLink2Description: https://datasheet.ciiva.com/14186/usblc6-2-st-eng-tds-14186568.pdf?src-supplier=Distrelec; ComponentLink3URL: https://datasheet.ciiva.com/22692/1690354-22692453.pdf?src-supplier=Element14; ComponentLink3Description: https://datasheet.ciiva.com/22692/1690354-22692453.pdf?src-supplier=Element14; ComponentLink4URL: https://datasheet.ciiva.com/22685/1690354-22685832.pdf?src-supplier=Element14; ComponentLink4Description: https://datasheet.ciiva.com/22685/1690354-22685832.pdf?src-supplier=Element14; ComponentLink5URL: https://datasheet.ciiva.com/16378/cd00050750-16378714.pdf?src-supplier=Future+Electronics; ComponentLink5Description: https://datasheet.ciiva.com/16378/cd00050750-16378714.pdf?src-supplier=Future+Electronics; ComponentLink6URL: https://datasheet.ciiva.com/4508/cd00050750-4508892.pdf?src-supplier=Mouser; ComponentLink6Description: https://datasheet.ciiva.com/4508/cd00050750-4508892.pdf?src-supplier=Mouser; ComponentLink7URL: https://datasheet.ciiva.com/41444/001184108-da-01-en-ic-esd-protection-usblc6-2p6-sot-666-stm-41444134.pdf?src-supplier=Conrad; ComponentLink7Description: https://datasheet.ciiva.com/41444/001184108-da-01-en-ic-esd-protection-usblc6-2p6-sot-666-stm-41444134.pdf?src-supplier=Conrad; Supplier Part Number 1: 1295310
footprint SOT95P280X145-6M (SOT23, 6-Leads, Body 3,15x2,80mm, Pitch 0,95mm, IPC Low Density)
pins: 1 I/O1, 2 GND, 3 I/O2, 4 I/O2, 5 Vbus, 6 I/O1

## W25N01GVZEIT
designator U?  (value not drawn)
Manufacturer 1: Winbond; Manufacturer Part Number 1: W25N01GVZEIT; Supplier 1: Arrow; Stock 1: 984; Pricing 1: 1=2,30400, 10=2,07800, 25=2,03300, 50=2,00590, 100=1,79100, 250=1,72200, 500=1,69700, 1000=1,57900, 5000=1,41900 (USD); RoHS: No; Supplier Part Number 1: W25N01GVZEIT
footprint SON127P800X80_HS-9M (SON, 8-Leads, Body 6,00x8,00mm, Pitch 1,27mm, Thermal Pad 4,30x3,40mm, IPC Low Density)
pins: 1 /CS (in), 2 DO (IO1) (io), 3 /WP (IO2) (io), 4 GND (power), 5 DI (IO0) (io), 6 CLK (in), 7 /HOLD (IO3) (io), 8 VCC (power), 9 PAD (power)